# Altium footprint library WURTH_157142S12803.PcbLib: 1 footprints
Each footprint in its own frame and in the unit in brackets; x right, y up, seen from the top. Pads: shape width x height; smd on the part's side, far side on the other; paste and mask are expansions set on the pad; w line width, h text height; cw(c..) or ccw(c..) is an arc to the next point about the centre after c.
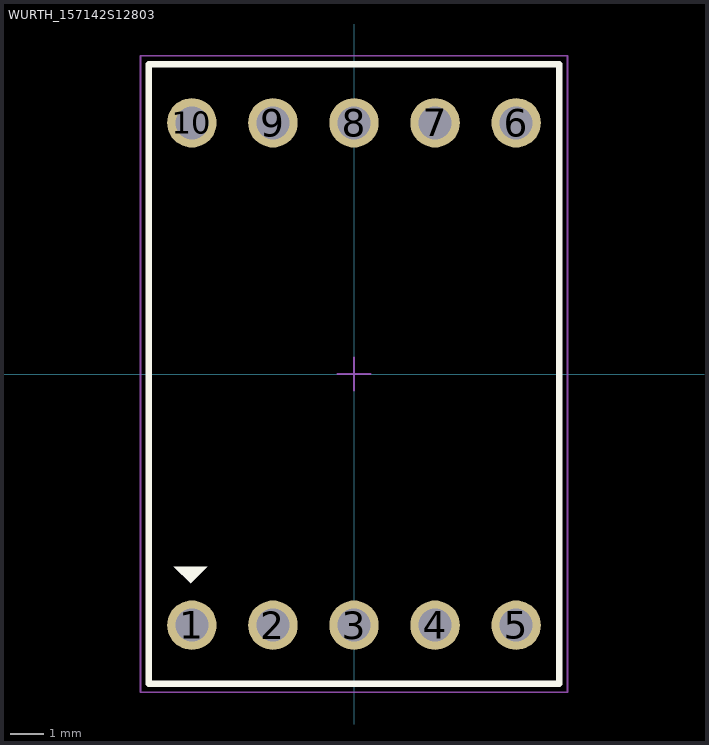
[diagram p0: the footprint, top view; thin cyan lines are the x and y axes]

## WURTH_157142S12803 [mm]
pads (10):
  round 1.5 hole 1: 1(-4.92,-7.62) 2(-2.46,-7.62) 3(0,-7.62) 4(2.46,-7.62) 5(4.92,-7.62) 6(4.92,7.62) 7(2.46,7.62) 8(0,7.62) 9(-2.46,7.62) 10(-4.92,7.62)
Top Overlay:
  region: -4.953,-6.35 -4.445,-5.842 -5.461,-5.842
  lines w0.2: -6.223,-9.398 6.223,-9.398 6.223,9.398 -6.223,9.398 -6.223,-9.398
Mechanical 15:
  lines w0.05: -0.508,0 0.508,0 ; 0,-0.508 0,0.508 ; -6.477,-9.652 6.477,-9.652 6.477,9.652 -6.477,9.652 -6.477,-9.652
3D body "STP_WL-T7DS_0_56_157142x12803_157142x12703_rev1.stp": height 8.03, standoff -4.27, extent -6.3,-9.5 6.3,9.5